# Altium schematic symbol library Personal_libary.SchLib: 523 symbols (part 14 of 14)
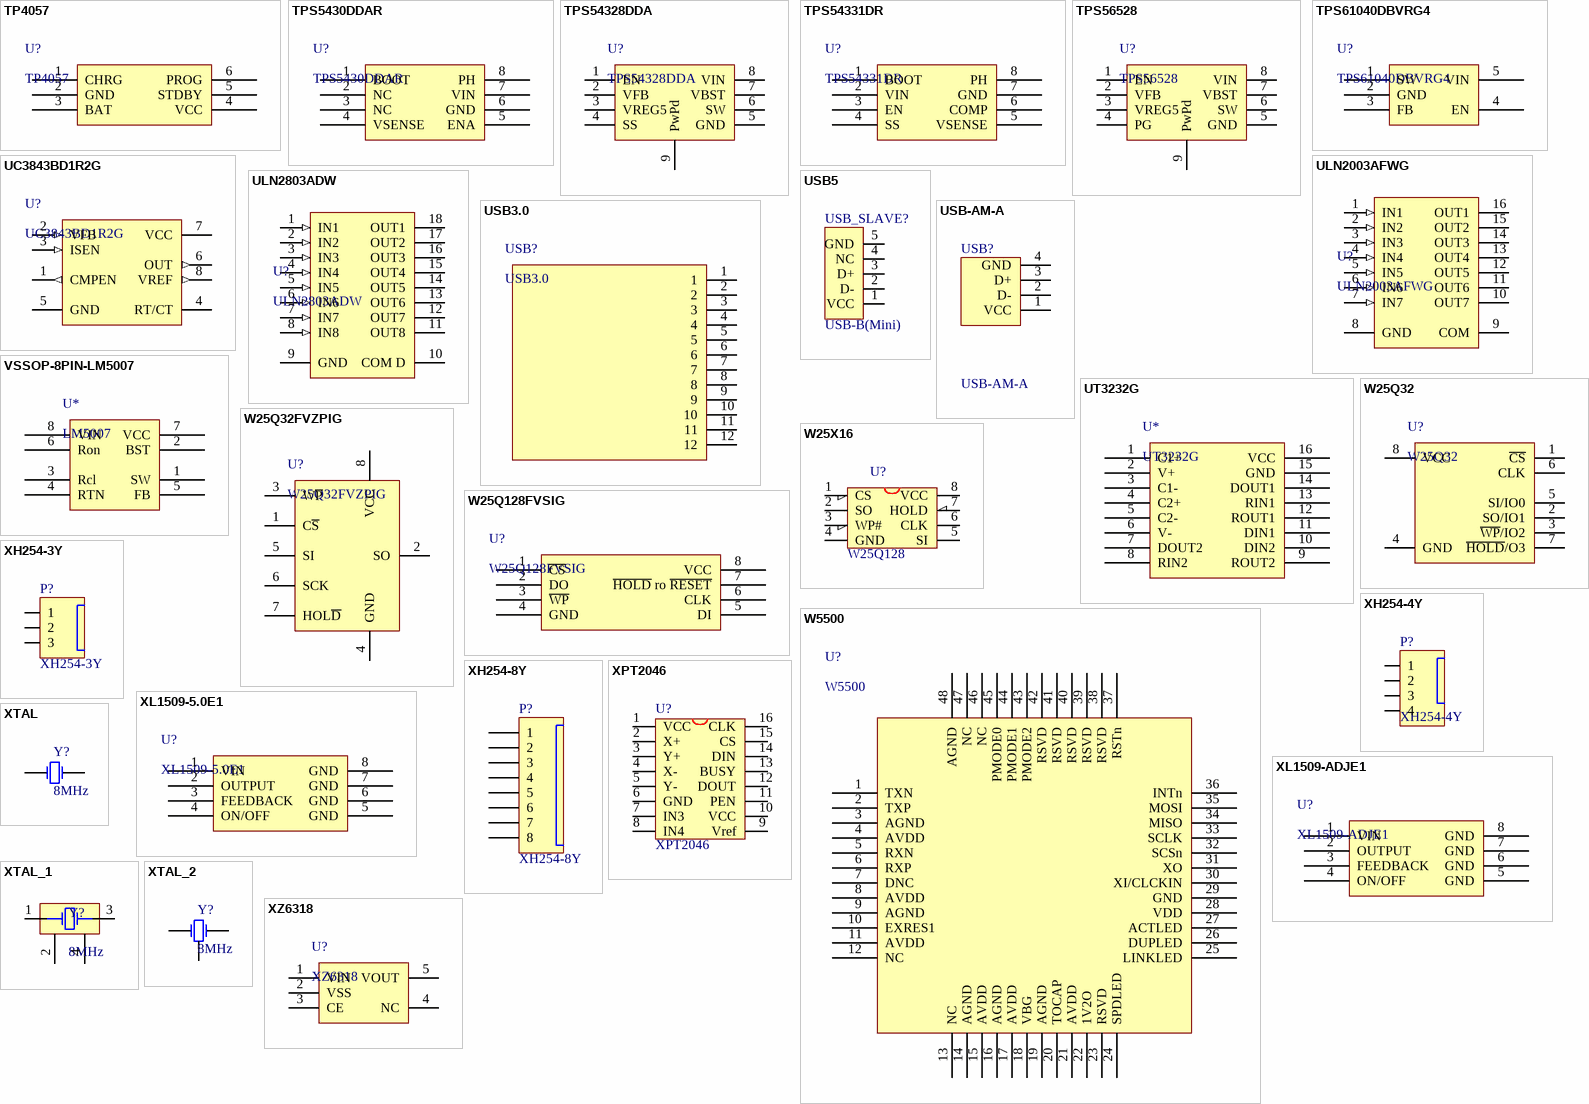
[diagram p44: symbols TP4057 to XZ6318]

## UC3843BD1R2G
designator U?
开关电源; ComponentLink1Description: 供应商链接; ComponentLink1URL: http://www.szlcsc.com/product/details_17096.html; Package: SOIC-8_150mil; Supplier: LC; SuppliersPartNumber: C16414
footprint LC-SOIC-8_150mil
pins: 1 CMPEN (out), 2 VFB (in), 3 ISEN (in), 4 RT/CT, 5 GND (power), 6 OUT (out), 7 VCC (power), 8 VREF (out)

## ULN2003AFWG
designator U?
大电流驱动; ComponentLink1Description: 供应商链接; ComponentLink1URL: http://www.szlcsc.com/product/details_5880.html; Package: SOIC-16_150mil; Supplier: LC; SuppliersPartNumber: C5437
footprint LC-SOIC-16_150mil
pins: 1 IN1 (in), 2 IN2 (in), 3 IN3 (in), 4 IN4 (in), 5 IN5 (in), 6 IN6 (in), 7 IN7 (in), 8 GND (power), 9 COM, 10 OUT7 (oc), 11 OUT6 (oc), 12 OUT5 (oc), 13 OUT4 (oc), 14 OUT3 (oc), 15 OUT2 (oc), 16 OUT1 (oc)

## ULN2803ADW
designator U?
大电流驱动; ComponentLink1Description: 供应商链接; ComponentLink1URL: http://www.szlcsc.com/product/details_10213.html; Package: SOIC-18_300mil; Supplier: LC; SuppliersPartNumber: C9683
footprint LC-SOIC-18_300mil
pins: 1 IN1 (in), 2 IN2 (in), 3 IN3 (in), 4 IN4 (in), 5 IN5 (in), 6 IN6 (in), 7 IN7 (in), 8 IN8 (in), 9 GND (power), 10 COM D, 11 OUT8 (oc), 12 OUT7 (oc), 13 OUT6 (oc), 14 OUT5 (oc), 15 OUT4 (oc), 16 OUT3 (oc), 17 OUT2 (oc), 18 OUT1 (oc)

## USB3.0
designator USB?
footprint USB-3.1-TYPE-C
pins: 1, 2, 3, 4, 5, 6, 7, 8, 9, 10, 11, 12

## USB5
designator USB_SLAVE?, comment USB-B(Mini)
footprint USB-V3
footprint USB-MicroUSB (MicroUSB)
pins: 1 VCC, 2 D-, 3 D+, 4 NC, 5 GND

## USB-AM-A
designator USB?
footprint USB-AM-A (USB接口)
pins: 1 VCC, 2 D-, 3 D+, 4 GND

## UT3232G
designator U*
footprint LC-TSSOP-16
pins: 1 C1+, 2 V+, 3 C1-, 4 C2+, 5 C2-, 6 V-, 7 DOUT2, 8 RIN2, 9 ROUT2, 10 DIN2, 11 DIN1, 12 ROUT1, 13 RIN1, 14 DOUT1, 15 GND, 16 VCC

## VSSOP-8PIN-LM5007
designator U*, comment LM5007
footprint LC-VSSOP-8_3x3x065P - LM5007
pins: 1 SW, 2 BST, 3 Rcl, 4 RTN, 5 FB, 6 Ron, 7 VCC, 8 VIN

## W25Q32
designator U?
footprint SOIC-8
pins: 1 ~{CS} (power), 2 SO/IO1 (power), 3 ~{WP}/IO2 (power), 4 GND (power), 5 SI/IO0 (power), 6 CLK (power), 7 ~{HOLD}/O3 (power), 8 VCC (power)

## W25Q32FVZPIG
designator U?
footprint WSON-8
footprint WSON-8-5X6 (SON, 8-Leads, Body 5.00x6.00mm, Pitch 1.27mm, Thermal Pad 0.00x0.00mm, IPC Medium Density)
pins: 1 C~{S}, 2 SO, 3 W~{P}, 4 GND, 5 SI, 6 SCK, 7 HOL~{D}, 8 VCC

## W25Q128FVSIG
designator U?
Flash ROM; ComponentLink1Description: 供应商链接; ComponentLink1URL: http://www.szlcsc.com/product/details_36072.html; Package: SOIC-8; Supplier: LC; SuppliersPartNumber: C35101
footprint LC-SOIC-8_208mil
pins: 1 ~{CS}, 2 DO, 3 ~{WP}, 4 GND, 5 DI, 6 CLK, 7 ~{HOLD} ro ~{RESET}, 8 VCC

## W25X16
designator U?, comment W25Q128
W25X16;SST25VF016;MX25L1605
footprint SOIC-8 (SOIC)
pins: 1 CS, 2 SO, 3 WP#, 4 GND, 5 SI, 6 CLK, 7 HOLD, 8 VCC

## W5500
designator U?
以太网; ComponentLink1Description: 供应商链接; ComponentLink1URL: http://www.szlcsc.com/product/details_33808.html; Package: LQFP-48_7x7x05P; Supplier: LC; SuppliersPartNumber: C32843
footprint LC-LQFP-48_7x7x05P
pins: 1 TXN, 2 TXP, 3 AGND, 4 AVDD, 5 RXN, 6 RXP, 7 DNC, 8 AVDD, 9 AGND, 10 EXRES1, 11 AVDD, 12 NC, 13 NC, 14 AGND, 15 AVDD, 16 AGND, 17 AVDD, 18 VBG, 19 AGND, 20 TOCAP, 21 AVDD, 22 1V2O, 23 RSVD, 24 SPDLED, 25 LINKLED, 26 DUPLED, 27 ACTLED, 28 VDD, 29 GND, 30 XI/CLCKIN, 31 XO, 32 SCSn, 33 SCLK, 34 MISO, 35 MOSI, 36 INTn, 37 RSTn, 38 RSVD, 39 RSVD, 40 RSVD, 41 RSVD, 42 RSVD, 43 PMODE2, 44 PMODE1, 45 PMODE0, 46 NC, 47 NC, 48 AGND

## XH254-3Y
designator P?
LatestRevisionDate: 17-Jul-2002; LatestRevisionNote: Re-released for DXP Platform.; Publisher: Altium Limited
footprint XH-A-254-3Y
footprint XH-AW-254-3Y
pins: 1, 2, 3

## XH254-4Y
designator P?
LatestRevisionDate: 17-Jul-2002; LatestRevisionNote: Re-released for DXP Platform.; Publisher: Altium Limited
footprint XH-A-254-4Y
footprint XH-AW-254-4Y
pins: 1, 2, 3, 4

## XH254-8Y
designator P?
LatestRevisionDate: 17-Jul-2002; LatestRevisionNote: Re-released for DXP Platform.; Publisher: Altium Limited
footprint XH-AW-254-8Y
pins: 1, 2, 3, 4, 5, 6, 7, 8

## XL1509-5.0E1
designator U?
DC-DC芯片; ComponentLink1Description: 供应商链接; ComponentLink1URL: http://www.szlcsc.com/product/details_62115.html; Package: SOP-8_150mil; Supplier: LC; SuppliersPartNumber: C61063
footprint LC-SOP-8_150mil
pins: 1 VIN , 2 OUTPUT , 3 FEEDBACK , 4 ON/OFF , 5  GND, 6  GND, 7 GND, 8 GND

## XL1509-ADJE1
designator U?
DC-DC芯片; ComponentLink1Description: 供应商链接; ComponentLink1URL: http://www.szlcsc.com/product/details_75311.html; Package: SOP-8_150mil; Supplier: LC; SuppliersPartNumber: C74192
footprint LC-SOP-8_150mil
pins: 1 VIN , 2 OUTPUT , 3 FEEDBACK , 4 ON/OFF , 5  GND, 6  GND, 7 GND, 8 GND

## XPT2046
designator U?
触摸屏控制器，AD转换器
footprint SSOP-16
pins: 1 VCC, 2 X+, 3 Y+, 4 X-, 5 Y-, 6 GND, 7 IN3, 8 IN4, 9 Vref, 10 VCC, 11 PEN, 12 DOUT, 13 BUSY, 14 DIN, 15 CS, 16 CLK
2 alternate drawings of the same symbol

## XTAL
designator Y?, comment 8MHz
Crystal Oscillator; Published: 8-Jun-2000; LatestRevisionDate: 17-Jul-2002; LatestRevisionNote: Re-released for DXP Platform.; Publisher: Altium Limited
simulation model XTAL (Spice Subcircuit)
footprint X-DT-26
footprint X-HC49-SMT (贴片晶振)
footprint X-HC49S
footprint X-MC146
footprint X-NX5032GA (贴片封装晶振)
pins: 1 OSC1, 2 OSC2

## XTAL_1
designator Y?, comment 8MHz
Crystal Oscillator; Published: 8-Jun-2000; LatestRevisionDate: 17-Jul-2002; LatestRevisionNote: Re-released for DXP Platform.; Publisher: Altium Limited
simulation model XTAL (Spice Subcircuit)
footprint X-TSX-3225 (26MHz Crystal)
pins: 1, 2, 3, 4

## XTAL_2
designator Y?, comment 8MHz
Crystal Oscillator; Published: 8-Jun-2000; LatestRevisionDate: 17-Jul-2002; LatestRevisionNote: Re-released for DXP Platform.; Publisher: Altium Limited
footprint X-CSTCE (8MHz Crystal,3Pin)
pins: 1 OSC1, 2 OSC2, 3

## XZ6318
designator U?
footprint SOT23-5
pins: 1 VIN, 2 VSS, 3 CE, 4 NC, 5 VOUT